# Altium integrated library Panasonic Relays Power Relays (Over 2A).IntLib: 286 symbols (part 5 of 8)
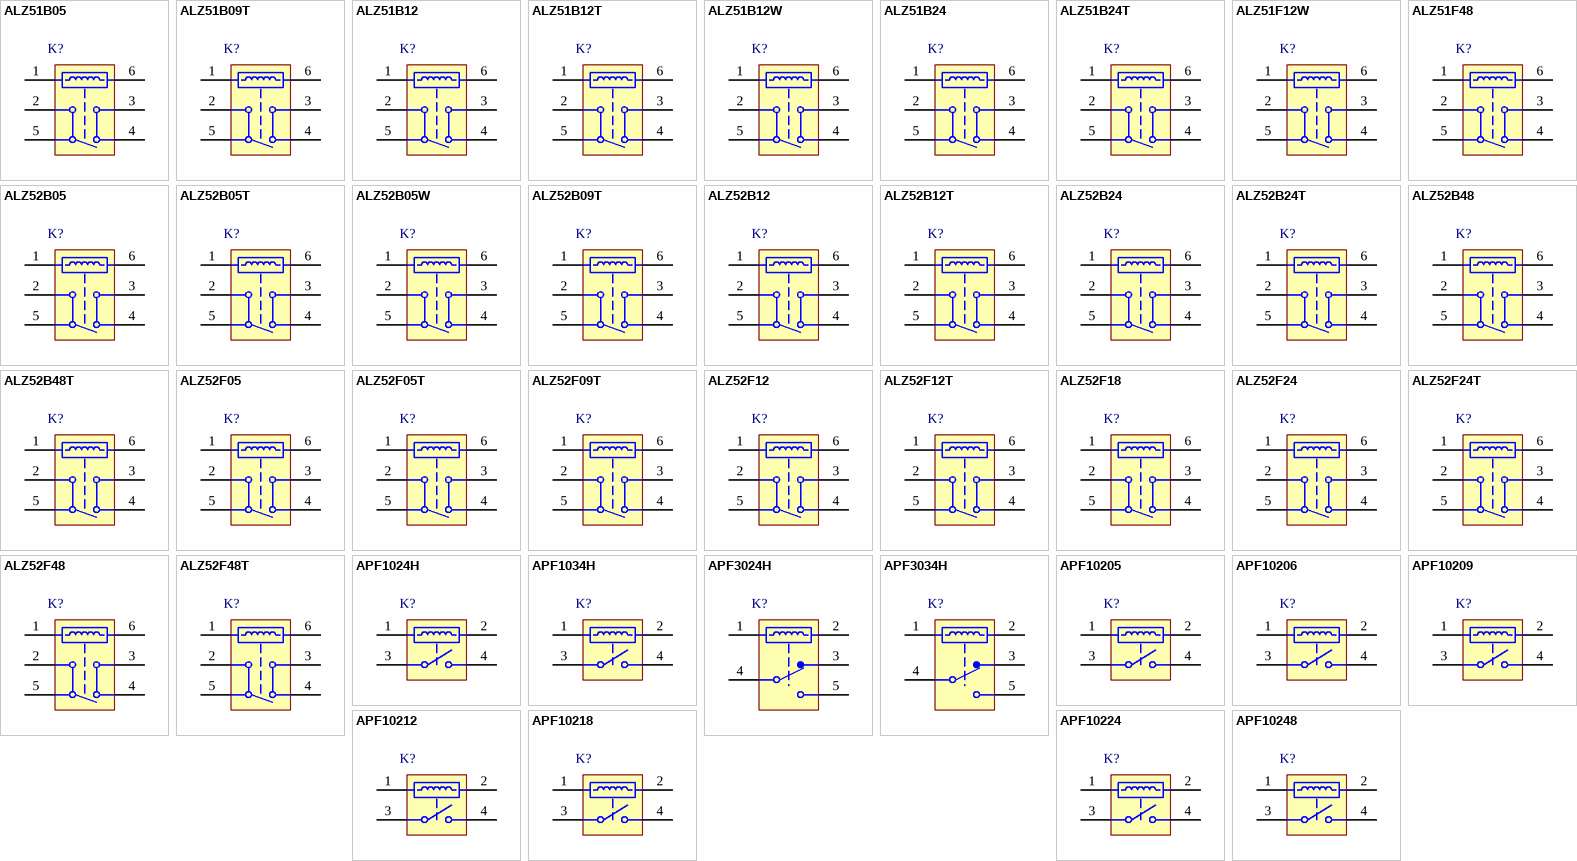
[diagram p11: symbols ALZ51B05 to APF10248]

## APF10212
designator K?
PF Relays, 12 V Coil Voltage, 170 mW Nominal Operating Power, -40 to 85 degC, 4-Pin PF, Tube, Case, RoHS; Manufacturer: Panasonic; PartNumber: APF10212; Coil Voltage: 12 V; Electrical Life: 5x10^4; Max Switching Current: 6 A; Max Switching Voltage: 250 V AC; Mechanical Life(Min.operation): 5x10^6; Nominal Operating Power: 170 mW; Pb-Free: True; DatasheetVersion: 201402-T; PackageVersion: ASCTB205E, 02/2014; PackageReference: PF-4-2800x500x1500; PackageDescription: 4-Pin Through Hole Terminal Package, Body 28 x 5 mm; Supplier 1: Mouser; Supplier Part Number 1: 769-APF10212; Supplier 2: Digi-Key; Supplier Part Number 2: 255-4240-5-ND; Packing: Tube, Case; RoHS: True; Series: PF Relays; Mounting Technology: Through Hole; ComponentLink1Description: Manufacturer URL; ComponentLink1URL: http://www3.panasonic.biz/ac/ae/index.jsp; ComponentLink2Description: Datasheet; ComponentLink2URL: http://www3.panasonic.biz/ac/e_download/control/relay/power/catalog/mech_eng_pf.pdf?f_cd=300412; ComponentLink3Description: Package Specification; ComponentLink3URL: http://www3.panasonic.biz/ac/e_download/control/relay/power/catalog/mech_eng_pf.pdf?f_cd=300412
footprint PNSC-PF-4-2800x500x1500_V (PF, 4-Leads, Body 28x5mm)
pins: 1, 2, 3 COM, 4 NO

## APF10218
designator K?
PF Relays, 18 V Coil Voltage, 170 mW Nominal Operating Power, -40 to 85 degC, 4-Pin PF, Tube, Case, RoHS; Manufacturer: Panasonic; PartNumber: APF10218; Coil Voltage: 18 V; Electrical Life: 5x10^4; Max Switching Current: 6 A; Max Switching Voltage: 250 V AC; Mechanical Life(Min.operation): 5x10^6; Nominal Operating Power: 170 mW; Pb-Free: True; DatasheetVersion: 201402-T; PackageVersion: ASCTB205E, 02/2014; PackageReference: PF-4-2800x500x1500; PackageDescription: 4-Pin Through Hole Terminal Package, Body 28 x 5 mm; Supplier 1: Mouser; Supplier Part Number 1: 769-APF10218; Supplier 2: Digi-Key; Supplier Part Number 2: APF10218-ND; Packing: Tube, Case; RoHS: True; Series: PF Relays; Mounting Technology: Through Hole; ComponentLink1Description: Manufacturer URL; ComponentLink1URL: http://www3.panasonic.biz/ac/ae/index.jsp; ComponentLink2Description: Datasheet; ComponentLink2URL: http://www3.panasonic.biz/ac/e_download/control/relay/power/catalog/mech_eng_pf.pdf?f_cd=300412; ComponentLink3Description: Package Specification; ComponentLink3URL: http://www3.panasonic.biz/ac/e_download/control/relay/power/catalog/mech_eng_pf.pdf?f_cd=300412
footprint PNSC-PF-4-2800x500x1500_V (PF, 4-Leads, Body 28x5mm)
pins: 1, 2, 3 COM, 4 NO

## APF10224
designator K?
PF Relays, 24 V Coil Voltage, 170 mW Nominal Operating Power, -40 to 85 degC, 4-Pin PF, Tube, Case, RoHS; Manufacturer: Panasonic; PartNumber: APF10224; Coil Voltage: 24 V; Electrical Life: 5x10^4; Max Switching Current: 6 A; Max Switching Voltage: 250 V AC; Mechanical Life(Min.operation): 5x10^6; Nominal Operating Power: 170 mW; Pb-Free: True; DatasheetVersion: 201402-T; PackageVersion: ASCTB205E, 02/2014; PackageReference: PF-4-2800x500x1500; PackageDescription: 4-Pin Through Hole Terminal Package, Body 28 x 5 mm; Supplier 1: Mouser; Supplier Part Number 1: 769-APF10224; Supplier 2: Digi-Key; Supplier Part Number 2: 255-2906-ND; Packing: Tube, Case; RoHS: True; Series: PF Relays; Mounting Technology: Through Hole; ComponentLink1Description: Manufacturer URL; ComponentLink1URL: http://www3.panasonic.biz/ac/ae/index.jsp; ComponentLink2Description: Datasheet; ComponentLink2URL: http://www3.panasonic.biz/ac/e_download/control/relay/power/catalog/mech_eng_pf.pdf?f_cd=300412; ComponentLink3Description: Package Specification; ComponentLink3URL: http://www3.panasonic.biz/ac/e_download/control/relay/power/catalog/mech_eng_pf.pdf?f_cd=300412
footprint PNSC-PF-4-2800x500x1500_V (PF, 4-Leads, Body 28x5mm)
pins: 1, 2, 3 COM, 4 NO

## APF10248
designator K?
PF Relays, 48 V Coil Voltage, 217 mW Nominal Operating Power, -40 to 85 degC, 4-Pin PF, Tube, Case, RoHS; Manufacturer: Panasonic; PartNumber: APF10248; Coil Voltage: 48 V; Electrical Life: 5x10^4; Max Switching Current: 6 A; Max Switching Voltage: 250 V AC; Mechanical Life(Min.operation): 5x10^6; Nominal Operating Power: 217 mW; Pb-Free: True; DatasheetVersion: 201402-T; PackageVersion: ASCTB205E, 02/2014; PackageReference: PF-4-2800x500x1500; PackageDescription: 4-Pin Through Hole Terminal Package, Body 28 x 5 mm; Supplier 1: Mouser; Supplier Part Number 1: N/A; Supplier 2: Mouser; Supplier Part Number 2: N/A; Supplier 3: Digi-Key; Supplier Part Number 3: APF10248-ND; Packing: Tube, Case; RoHS: True; Series: PF Relays; Mounting Technology: Through Hole; ComponentLink1Description: Manufacturer URL; ComponentLink1URL: http://www3.panasonic.biz/ac/ae/index.jsp; ComponentLink2Description: Datasheet; ComponentLink2URL: http://www3.panasonic.biz/ac/e_download/control/relay/power/catalog/mech_eng_pf.pdf?f_cd=300412; ComponentLink3Description: Package Specification; ComponentLink3URL: http://www3.panasonic.biz/ac/e_download/control/relay/power/catalog/mech_eng_pf.pdf?f_cd=300412
footprint PNSC-PF-4-2800x500x1500_V (PF, 4-Leads, Body 28x5mm)
pins: 1, 2, 3 COM, 4 NO

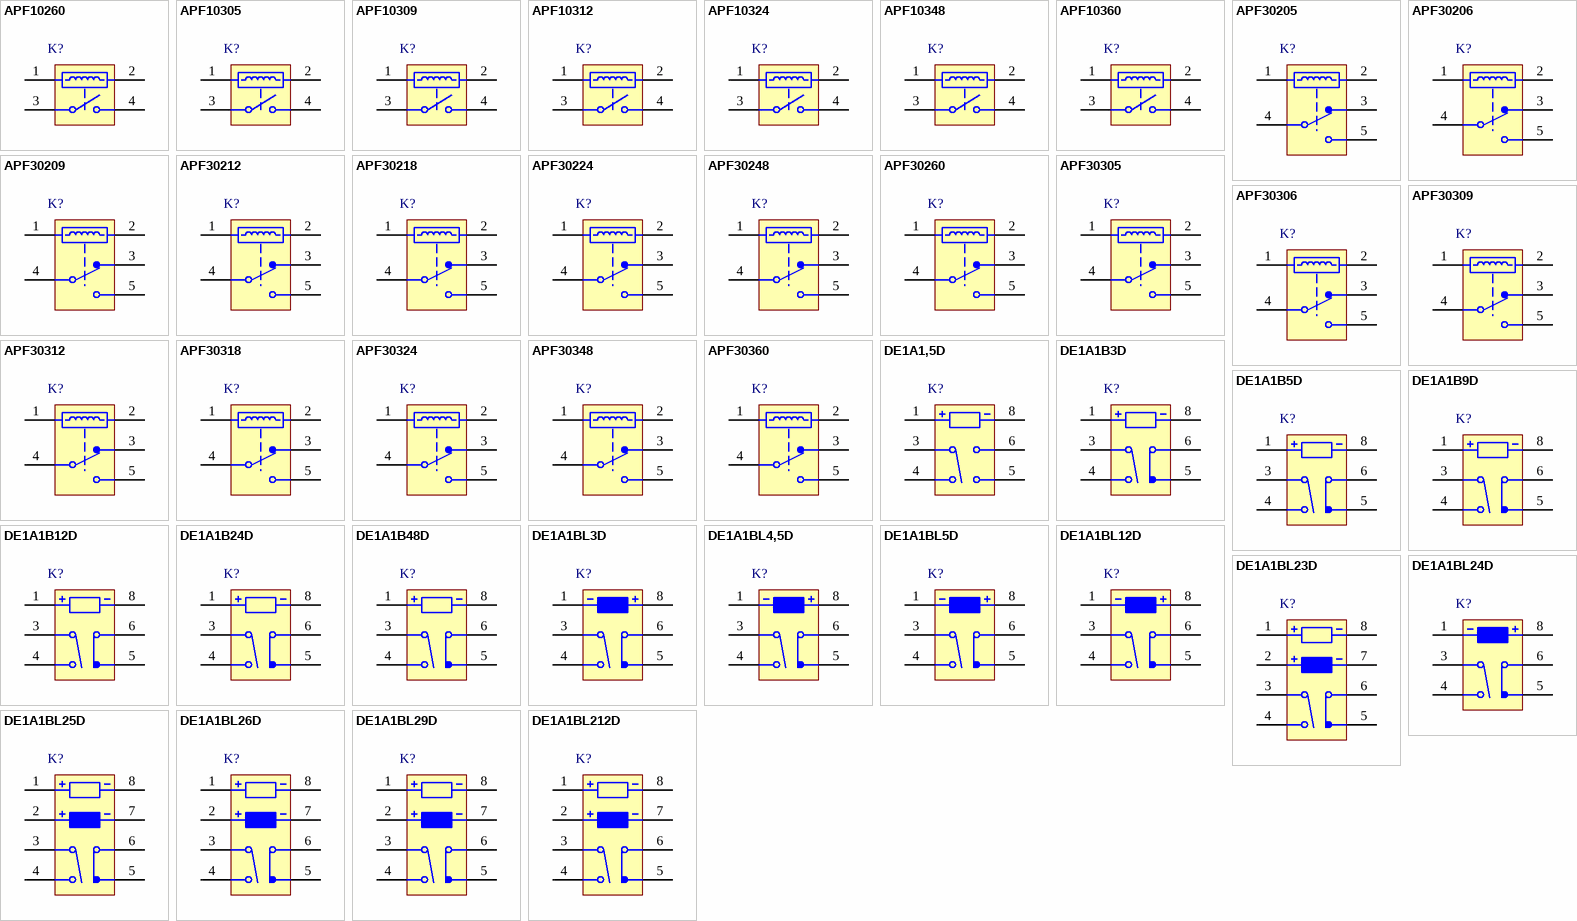
[diagram p4: symbols APF10260 to DE1A1BL212D]

## APF10260
designator K?
PF Relays, 60 V Coil Voltage, 175 mW Nominal Operating Power, -40 to 85 degC, 4-Pin PF, Tube, Case, RoHS; Manufacturer: Panasonic; PartNumber: APF10260; Coil Voltage: 60 V; Electrical Life: 5x10^4; Max Switching Current: 6 A; Max Switching Voltage: 250 V AC; Mechanical Life(Min.operation): 5x10^6; Nominal Operating Power: 175 mW; Pb-Free: True; DatasheetVersion: 201402-T; PackageVersion: ASCTB205E, 02/2014; PackageReference: PF-4-2800x500x1500; PackageDescription: 4-Pin Through Hole Terminal Package, Body 28 x 5 mm; Supplier 1: Mouser; Supplier Part Number 1: N/A; Supplier 2: Mouser; Supplier Part Number 2: N/A; Supplier 3: Digi-Key; Supplier Part Number 3: APF10260-ND; Packing: Tube, Case; RoHS: True; Series: PF Relays; Mounting Technology: Through Hole; ComponentLink1Description: Manufacturer URL; ComponentLink1URL: http://www3.panasonic.biz/ac/ae/index.jsp; ComponentLink2Description: Datasheet; ComponentLink2URL: http://www3.panasonic.biz/ac/e_download/control/relay/power/catalog/mech_eng_pf.pdf?f_cd=300412; ComponentLink3Description: Package Specification; ComponentLink3URL: http://www3.panasonic.biz/ac/e_download/control/relay/power/catalog/mech_eng_pf.pdf?f_cd=300412
footprint PNSC-PF-4-2800x500x1500_V (PF, 4-Leads, Body 28x5mm)
pins: 1, 2, 3 COM, 4 NO

## APF10305
designator K?
PF Relays, 5 V Coil Voltage, 170 mW Nominal Operating Power, -40 to 85 degC, 4-Pin PF, Tube, Case, RoHS; Manufacturer: Panasonic; PartNumber: APF10305; Coil Voltage: 5 V; Electrical Life: 5x10^4; Max Switching Current: 6 A; Max Switching Voltage: 250 V AC; Mechanical Life(Min.operation): 5x10^6; Nominal Operating Power: 170 mW; Pb-Free: True; DatasheetVersion: 201402-T; PackageVersion: ASCTB205E, 02/2014; PackageReference: PF-4-2800x500x1500; PackageDescription: 4-Pin Through Hole Terminal Package, Body 28 x 5 mm; Supplier 1: Mouser; Supplier Part Number 1: N/A; Supplier 2: Digi-Key; Supplier Part Number 2: 255-4241-5-ND; Packing: Tube, Case; RoHS: True; Series: PF Relays; Mounting Technology: Through Hole; ComponentLink1Description: Manufacturer URL; ComponentLink1URL: http://www3.panasonic.biz/ac/ae/index.jsp; ComponentLink2Description: Datasheet; ComponentLink2URL: http://www3.panasonic.biz/ac/e_download/control/relay/power/catalog/mech_eng_pf.pdf?f_cd=300412; ComponentLink3Description: Package Specification; ComponentLink3URL: http://www3.panasonic.biz/ac/e_download/control/relay/power/catalog/mech_eng_pf.pdf?f_cd=300412
footprint PNSC-PF-4-2800x500x1500_V (PF, 4-Leads, Body 28x5mm)
pins: 1, 2, 3 COM, 4 NO

## APF10309
designator K?
PF Relays, 9 V Coil Voltage, 170 mW Nominal Operating Power, -40 to 85 degC, 4-Pin PF, Tube, Case, RoHS; Manufacturer: Panasonic; PartNumber: APF10309; Coil Voltage: 9 V; Electrical Life: 5x10^4; Max Switching Current: 6 A; Max Switching Voltage: 250 V AC; Mechanical Life(Min.operation): 5x10^6; Nominal Operating Power: 170 mW; Pb-Free: True; DatasheetVersion: 201402-T; PackageVersion: ASCTB205E, 02/2014; PackageReference: PF-4-2800x500x1500; PackageDescription: 4-Pin Through Hole Terminal Package, Body 28 x 5 mm; Supplier 1: Mouser; Supplier Part Number 1: N/A; Supplier 2: Digi-Key; Supplier Part Number 2: APF10309-ND; Packing: Tube, Case; RoHS: True; Series: PF Relays; Mounting Technology: Through Hole; ComponentLink1Description: Manufacturer URL; ComponentLink1URL: http://www3.panasonic.biz/ac/ae/index.jsp; ComponentLink2Description: Datasheet; ComponentLink2URL: http://www3.panasonic.biz/ac/e_download/control/relay/power/catalog/mech_eng_pf.pdf?f_cd=300412; ComponentLink3Description: Package Specification; ComponentLink3URL: http://www3.panasonic.biz/ac/e_download/control/relay/power/catalog/mech_eng_pf.pdf?f_cd=300412
footprint PNSC-PF-4-2800x500x1500_V (PF, 4-Leads, Body 28x5mm)
pins: 1, 2, 3 COM, 4 NO

## APF10312
designator K?
PF Relays, 12 V Coil Voltage, 170 mW Nominal Operating Power, -40 to 85 degC, 4-Pin PF, Tube, Case, RoHS; Manufacturer: Panasonic; PartNumber: APF10312; Coil Voltage: 12 V; Electrical Life: 5x10^4; Max Switching Current: 6 A; Max Switching Voltage: 250 V AC; Mechanical Life(Min.operation): 5x10^6; Nominal Operating Power: 170 mW; Pb-Free: True; DatasheetVersion: 201402-T; PackageVersion: ASCTB205E, 02/2014; PackageReference: PF-4-2800x500x1500; PackageDescription: 4-Pin Through Hole Terminal Package, Body 28 x 5 mm; Supplier 1: Mouser; Supplier Part Number 1: 769-APF10312; Supplier 2: Digi-Key; Supplier Part Number 2: 255-2905-ND; Packing: Tube, Case; RoHS: True; Series: PF Relays; Mounting Technology: Through Hole; ComponentLink1Description: Manufacturer URL; ComponentLink1URL: http://www3.panasonic.biz/ac/ae/index.jsp; ComponentLink2Description: Datasheet; ComponentLink2URL: http://www3.panasonic.biz/ac/e_download/control/relay/power/catalog/mech_eng_pf.pdf?f_cd=300412; ComponentLink3Description: Package Specification; ComponentLink3URL: http://www3.panasonic.biz/ac/e_download/control/relay/power/catalog/mech_eng_pf.pdf?f_cd=300412
footprint PNSC-PF-4-2800x500x1500_V (PF, 4-Leads, Body 28x5mm)
pins: 1, 2, 3 COM, 4 NO

## APF10324
designator K?
PF Relays, 24 V Coil Voltage, 170 mW Nominal Operating Power, -40 to 85 degC, 4-Pin PF, Tube, Case, RoHS; Manufacturer: Panasonic; PartNumber: APF10324; Coil Voltage: 24 V; Electrical Life: 5x10^4; Max Switching Current: 6 A; Max Switching Voltage: 250 V AC; Mechanical Life(Min.operation): 5x10^6; Nominal Operating Power: 170 mW; Pb-Free: True; DatasheetVersion: 201402-T; PackageVersion: ASCTB205E, 02/2014; PackageReference: PF-4-2800x500x1500; PackageDescription: 4-Pin Through Hole Terminal Package, Body 28 x 5 mm; Supplier 1: Mouser; Supplier Part Number 1: 769-APF10324; Supplier 2: Digi-Key; Supplier Part Number 2: APF10324-ND; Packing: Tube, Case; RoHS: True; Series: PF Relays; Mounting Technology: Through Hole; ComponentLink1Description: Manufacturer URL; ComponentLink1URL: http://www3.panasonic.biz/ac/ae/index.jsp; ComponentLink2Description: Datasheet; ComponentLink2URL: http://www3.panasonic.biz/ac/e_download/control/relay/power/catalog/mech_eng_pf.pdf?f_cd=300412; ComponentLink3Description: Package Specification; ComponentLink3URL: http://www3.panasonic.biz/ac/e_download/control/relay/power/catalog/mech_eng_pf.pdf?f_cd=300412
footprint PNSC-PF-4-2800x500x1500_V (PF, 4-Leads, Body 28x5mm)
pins: 1, 2, 3 COM, 4 NO

## APF10348
designator K?
PF Relays, 48 V Coil Voltage, 217 mW Nominal Operating Power, -40 to 85 degC, 4-Pin PF, Tube, Case, RoHS; Manufacturer: Panasonic; PartNumber: APF10348; Coil Voltage: 48 V; Electrical Life: 5x10^4; Max Switching Current: 6 A; Max Switching Voltage: 250 V AC; Mechanical Life(Min.operation): 5x10^6; Nominal Operating Power: 217 mW; Pb-Free: True; DatasheetVersion: 201402-T; PackageVersion: ASCTB205E, 02/2014; PackageReference: PF-4-2800x500x1500; PackageDescription: 4-Pin Through Hole Terminal Package, Body 28 x 5 mm; Supplier 1: Mouser; Supplier Part Number 1: N/A; Supplier 2: Mouser; Supplier Part Number 2: N/A; Supplier 3: Digi-Key; Supplier Part Number 3: APF10348-ND; Packing: Tube, Case; RoHS: True; Series: PF Relays; Mounting Technology: Through Hole; ComponentLink1Description: Manufacturer URL; ComponentLink1URL: http://www3.panasonic.biz/ac/ae/index.jsp; ComponentLink2Description: Datasheet; ComponentLink2URL: http://www3.panasonic.biz/ac/e_download/control/relay/power/catalog/mech_eng_pf.pdf?f_cd=300412; ComponentLink3Description: Package Specification; ComponentLink3URL: http://www3.panasonic.biz/ac/e_download/control/relay/power/catalog/mech_eng_pf.pdf?f_cd=300412
footprint PNSC-PF-4-2800x500x1500_V (PF, 4-Leads, Body 28x5mm)
pins: 1, 2, 3 COM, 4 NO

## APF10360
designator K?
PF Relays, 60 V Coil Voltage, 175 mW Nominal Operating Power, -40 to 85 degC, 4-Pin PF, Tube, Case, RoHS; Manufacturer: Panasonic; PartNumber: APF10360; Coil Voltage: 60 V; Electrical Life: 5x10^4; Max Switching Current: 6 A; Max Switching Voltage: 250 V AC; Mechanical Life(Min.operation): 5x10^6; Nominal Operating Power: 175 mW; Pb-Free: True; DatasheetVersion: 201402-T; PackageVersion: ASCTB205E, 02/2014; PackageReference: PF-4-2800x500x1500; PackageDescription: 4-Pin Through Hole Terminal Package, Body 28 x 5 mm; Supplier 1: Mouser; Supplier Part Number 1: 769-APF10360; Supplier 2: Digi-Key; Supplier Part Number 2: 255-2907-ND; Packing: Tube, Case; RoHS: True; Series: PF Relays; Mounting Technology: Through Hole; ComponentLink1Description: Manufacturer URL; ComponentLink1URL: http://www3.panasonic.biz/ac/ae/index.jsp; ComponentLink2Description: Datasheet; ComponentLink2URL: http://www3.panasonic.biz/ac/e_download/control/relay/power/catalog/mech_eng_pf.pdf?f_cd=300412; ComponentLink3Description: Package Specification; ComponentLink3URL: http://www3.panasonic.biz/ac/e_download/control/relay/power/catalog/mech_eng_pf.pdf?f_cd=300412
footprint PNSC-PF-4-2800x500x1500_V (PF, 4-Leads, Body 28x5mm)
pins: 1, 2, 3 COM, 4 NO

## APF30205
designator K?
PF Relays, 5 V Coil Voltage, 170 mW Nominal Operating Power, -40 to 85 degC, 5-Pin PF, Tube, Case, RoHS; Manufacturer: Panasonic; PartNumber: APF30205; Coil Voltage: 5 V; Electrical Life: 5x10^4 (N.O.), 3x10^4 (N.C.); Max Switching Current: 6 A; Max Switching Voltage: 250 V AC; Mechanical Life(Min.operation): 5x10^6; Nominal Operating Power: 170 mW; Pb-Free: True; DatasheetVersion: 201402-T; PackageVersion: ASCTB205E, 02/2014; PackageReference: PF-5-2800x500x1500; PackageDescription: 5-Pin Through Hole Terminal Package, Body 28 x 5 mm; Supplier 1: Mouser; Supplier Part Number 1: N/A; Supplier 2: Digi-Key; Supplier Part Number 2: 255-4242-5-ND; Packing: Tube, Case; RoHS: True; Series: PF Relays; Mounting Technology: Through Hole; ComponentLink1Description: Manufacturer URL; ComponentLink1URL: http://www3.panasonic.biz/ac/ae/index.jsp; ComponentLink2Description: Datasheet; ComponentLink2URL: http://www3.panasonic.biz/ac/e_download/control/relay/power/catalog/mech_eng_pf.pdf?f_cd=300412; ComponentLink3Description: Package Specification; ComponentLink3URL: http://www3.panasonic.biz/ac/e_download/control/relay/power/catalog/mech_eng_pf.pdf?f_cd=300412
footprint PNSC-PF-5-2800x500x1500_V (PF, 5-Leads, Body 28x5mm)
pins: 1, 2, 3 NC, 4 COM, 5 NO

## APF30206
designator K?
PF Relays, 6 V Coil Voltage, 170 mW Nominal Operating Power, -40 to 85 degC, 5-Pin PF, Tube, Case, RoHS; Manufacturer: Panasonic; PartNumber: APF30206; Coil Voltage: 6 V; Electrical Life: 5x10^4 (N.O.), 3x10^4 (N.C.); Max Switching Current: 6 A; Max Switching Voltage: 250 V AC; Mechanical Life(Min.operation): 5x10^6; Nominal Operating Power: 170 mW; Pb-Free: True; DatasheetVersion: 201402-T; PackageVersion: ASCTB205E, 02/2014; PackageReference: PF-5-2800x500x1500; PackageDescription: 5-Pin Through Hole Terminal Package, Body 28 x 5 mm; Supplier 1: Mouser; Supplier Part Number 1: 769-APF30206; Supplier 2: Digi-Key; Supplier Part Number 2: 255-2909-ND; Packing: Tube, Case; RoHS: True; Series: PF Relays; Mounting Technology: Through Hole; ComponentLink1Description: Manufacturer URL; ComponentLink1URL: http://www3.panasonic.biz/ac/ae/index.jsp; ComponentLink2Description: Datasheet; ComponentLink2URL: http://www3.panasonic.biz/ac/e_download/control/relay/power/catalog/mech_eng_pf.pdf?f_cd=300412; ComponentLink3Description: Package Specification; ComponentLink3URL: http://www3.panasonic.biz/ac/e_download/control/relay/power/catalog/mech_eng_pf.pdf?f_cd=300412
footprint PNSC-PF-5-2800x500x1500_V (PF, 5-Leads, Body 28x5mm)
pins: 1, 2, 3 NC, 4 COM, 5 NO

## APF30209
designator K?
PF Relays, 9 V Coil Voltage, 170 mW Nominal Operating Power, -40 to 85 degC, 5-Pin PF, Tube, Case, RoHS; Manufacturer: Panasonic; PartNumber: APF30209; Coil Voltage: 9 V; Electrical Life: 5x10^4 (N.O.), 3x10^4 (N.C.); Max Switching Current: 6 A; Max Switching Voltage: 250 V AC; Mechanical Life(Min.operation): 5x10^6; Nominal Operating Power: 170 mW; Pb-Free: True; DatasheetVersion: 201402-T; PackageVersion: ASCTB205E, 02/2014; PackageReference: PF-5-2800x500x1500; PackageDescription: 5-Pin Through Hole Terminal Package, Body 28 x 5 mm; Supplier 1: Mouser; Supplier Part Number 1: 769-APF30209; Supplier 2: Digi-Key; Supplier Part Number 2: 255-2910-ND; Packing: Tube, Case; RoHS: True; Series: PF Relays; Mounting Technology: Through Hole; ComponentLink1Description: Manufacturer URL; ComponentLink1URL: http://www3.panasonic.biz/ac/ae/index.jsp; ComponentLink2Description: Datasheet; ComponentLink2URL: http://www3.panasonic.biz/ac/e_download/control/relay/power/catalog/mech_eng_pf.pdf?f_cd=300412; ComponentLink3Description: Package Specification; ComponentLink3URL: http://www3.panasonic.biz/ac/e_download/control/relay/power/catalog/mech_eng_pf.pdf?f_cd=300412
footprint PNSC-PF-5-2800x500x1500_V (PF, 5-Leads, Body 28x5mm)
pins: 1, 2, 3 NC, 4 COM, 5 NO

## APF30212
designator K?
PF Relays, 12 V Coil Voltage, 170 mW Nominal Operating Power, -40 to 85 degC, 5-Pin PF, Tube, Case, RoHS; Manufacturer: Panasonic; PartNumber: APF30212; Coil Voltage: 12 V; Electrical Life: 5x10^4 (N.O.), 3x10^4 (N.C.); Max Switching Current: 6 A; Max Switching Voltage: 250 V AC; Mechanical Life(Min.operation): 5x10^6; Nominal Operating Power: 170 mW; Pb-Free: True; DatasheetVersion: 201402-T; PackageVersion: ASCTB205E, 02/2014; PackageReference: PF-5-2800x500x1500; PackageDescription: 5-Pin Through Hole Terminal Package, Body 28 x 5 mm; Supplier 1: Mouser; Supplier Part Number 1: 769-APF30212; Supplier 2: Digi-Key; Supplier Part Number 2: 255-2911-ND; Packing: Tube, Case; RoHS: True; Series: PF Relays; Mounting Technology: Through Hole; ComponentLink1Description: Manufacturer URL; ComponentLink1URL: http://www3.panasonic.biz/ac/ae/index.jsp; ComponentLink2Description: Datasheet; ComponentLink2URL: http://www3.panasonic.biz/ac/e_download/control/relay/power/catalog/mech_eng_pf.pdf?f_cd=300412; ComponentLink3Description: Package Specification; ComponentLink3URL: http://www3.panasonic.biz/ac/e_download/control/relay/power/catalog/mech_eng_pf.pdf?f_cd=300412
footprint PNSC-PF-5-2800x500x1500_V (PF, 5-Leads, Body 28x5mm)
pins: 1, 2, 3 NC, 4 COM, 5 NO

## APF30218
designator K?
PF Relays, 18 V Coil Voltage, 170 mW Nominal Operating Power, -40 to 85 degC, 5-Pin PF, Tube, Case, RoHS; Manufacturer: Panasonic; PartNumber: APF30218; Coil Voltage: 18 V; Electrical Life: 5x10^4 (N.O.), 3x10^4 (N.C.); Max Switching Current: 6 A; Max Switching Voltage: 250 V AC; Mechanical Life(Min.operation): 5x10^6; Nominal Operating Power: 170 mW; Pb-Free: True; DatasheetVersion: 201402-T; PackageVersion: ASCTB205E, 02/2014; PackageReference: PF-5-2800x500x1500; PackageDescription: 5-Pin Through Hole Terminal Package, Body 28 x 5 mm; Supplier 1: Mouser; Supplier Part Number 1: N/A; Supplier 2: Digi-Key; Supplier Part Number 2: APF30218-ND; Packing: Tube, Case; RoHS: True; Series: PF Relays; Mounting Technology: Through Hole; ComponentLink1Description: Manufacturer URL; ComponentLink1URL: http://www3.panasonic.biz/ac/ae/index.jsp; ComponentLink2Description: Datasheet; ComponentLink2URL: http://www3.panasonic.biz/ac/e_download/control/relay/power/catalog/mech_eng_pf.pdf?f_cd=300412; ComponentLink3Description: Package Specification; ComponentLink3URL: http://www3.panasonic.biz/ac/e_download/control/relay/power/catalog/mech_eng_pf.pdf?f_cd=300412
footprint PNSC-PF-5-2800x500x1500_V (PF, 5-Leads, Body 28x5mm)
pins: 1, 2, 3 NC, 4 COM, 5 NO

## APF30224
designator K?
PF Relays, 24 V Coil Voltage, 170 mW Nominal Operating Power, -40 to 85 degC, 5-Pin PF, Tube, Case, RoHS; Manufacturer: Panasonic; PartNumber: APF30224; Coil Voltage: 24 V; Electrical Life: 5x10^4 (N.O.), 3x10^4 (N.C.); Max Switching Current: 6 A; Max Switching Voltage: 250 V AC; Mechanical Life(Min.operation): 5x10^6; Nominal Operating Power: 170 mW; Pb-Free: True; DatasheetVersion: 201402-T; PackageVersion: ASCTB205E, 02/2014; PackageReference: PF-5-2800x500x1500; PackageDescription: 5-Pin Through Hole Terminal Package, Body 28 x 5 mm; Supplier 1: Mouser; Supplier Part Number 1: 769-APF30224; Supplier 2: Digi-Key; Supplier Part Number 2: 255-2912-ND; Packing: Tube, Case; RoHS: True; Series: PF Relays; Mounting Technology: Through Hole; ComponentLink1Description: Manufacturer URL; ComponentLink1URL: http://www3.panasonic.biz/ac/ae/index.jsp; ComponentLink2Description: Datasheet; ComponentLink2URL: http://www3.panasonic.biz/ac/e_download/control/relay/power/catalog/mech_eng_pf.pdf?f_cd=300412; ComponentLink3Description: Package Specification; ComponentLink3URL: http://www3.panasonic.biz/ac/e_download/control/relay/power/catalog/mech_eng_pf.pdf?f_cd=300412
footprint PNSC-PF-5-2800x500x1500_V (PF, 5-Leads, Body 28x5mm)
pins: 1, 2, 3 NC, 4 COM, 5 NO

## APF30248
designator K?
PF Relays, 48 V Coil Voltage, 217 mW Nominal Operating Power, -40 to 85 degC, 5-Pin PF, Tube, Case, RoHS; Manufacturer: Panasonic; PartNumber: APF30248; Coil Voltage: 48 V; Electrical Life: 5x10^4 (N.O.), 3x10^4 (N.C.); Max Switching Current: 6 A; Max Switching Voltage: 250 V AC; Mechanical Life(Min.operation): 5x10^6; Nominal Operating Power: 217 mW; Pb-Free: True; DatasheetVersion: 201402-T; PackageVersion: ASCTB205E, 02/2014; PackageReference: PF-5-2800x500x1500; PackageDescription: 5-Pin Through Hole Terminal Package, Body 28 x 5 mm; Supplier 1: Mouser; Supplier Part Number 1: N/A; Supplier 2: Mouser; Supplier Part Number 2: N/A; Supplier 3: Digi-Key; Supplier Part Number 3: APF30248-ND; Packing: Tube, Case; RoHS: True; Series: PF Relays; Mounting Technology: Through Hole; ComponentLink1Description: Manufacturer URL; ComponentLink1URL: http://www3.panasonic.biz/ac/ae/index.jsp; ComponentLink2Description: Datasheet; ComponentLink2URL: http://www3.panasonic.biz/ac/e_download/control/relay/power/catalog/mech_eng_pf.pdf?f_cd=300412; ComponentLink3Description: Package Specification; ComponentLink3URL: http://www3.panasonic.biz/ac/e_download/control/relay/power/catalog/mech_eng_pf.pdf?f_cd=300412
footprint PNSC-PF-5-2800x500x1500_V (PF, 5-Leads, Body 28x5mm)
pins: 1, 2, 3 NC, 4 COM, 5 NO

## APF30260
designator K?
PF Relays, 60 V Coil Voltage, 175 mW Nominal Operating Power, -40 to 85 degC, 5-Pin PF, Tube, Case, RoHS; Manufacturer: Panasonic; PartNumber: APF30260; Coil Voltage: 60 V; Electrical Life: 5x10^4 (N.O.), 3x10^4 (N.C.); Max Switching Current: 6 A; Max Switching Voltage: 250 V AC; Mechanical Life(Min.operation): 5x10^6; Nominal Operating Power: 175 mW; Pb-Free: True; DatasheetVersion: 201402-T; PackageVersion: ASCTB205E, 02/2014; PackageReference: PF-5-2800x500x1500; PackageDescription: 5-Pin Through Hole Terminal Package, Body 28 x 5 mm; Supplier 1: Mouser; Supplier Part Number 1: 769-APF30260; Supplier 2: Digi-Key; Supplier Part Number 2: 255-2914-ND; Packing: Tube, Case; RoHS: True; Series: PF Relays; Mounting Technology: Through Hole; ComponentLink1Description: Manufacturer URL; ComponentLink1URL: http://www3.panasonic.biz/ac/ae/index.jsp; ComponentLink2Description: Datasheet; ComponentLink2URL: http://www3.panasonic.biz/ac/e_download/control/relay/power/catalog/mech_eng_pf.pdf?f_cd=300412; ComponentLink3Description: Package Specification; ComponentLink3URL: http://www3.panasonic.biz/ac/e_download/control/relay/power/catalog/mech_eng_pf.pdf?f_cd=300412
footprint PNSC-PF-5-2800x500x1500_V (PF, 5-Leads, Body 28x5mm)
pins: 1, 2, 3 NC, 4 COM, 5 NO

## APF30305
designator K?
PF Relays, 5 V Coil Voltage, 170 mW Nominal Operating Power, -40 to 85 degC, 5-Pin PF, Tube, Case, RoHS; Manufacturer: Panasonic; PartNumber: APF30305; Coil Voltage: 5 V; Electrical Life: 5x10^4 (N.O.), 3x10^4 (N.C.); Max Switching Current: 6 A; Max Switching Voltage: 250 V AC; Mechanical Life(Min.operation): 5x10^6; Nominal Operating Power: 170 mW; Pb-Free: True; DatasheetVersion: 201402-T; PackageVersion: ASCTB205E, 02/2014; PackageReference: PF-5-2800x500x1500; PackageDescription: 5-Pin Through Hole Terminal Package, Body 28 x 5 mm; Supplier 1: Mouser; Supplier Part Number 1: N/A; Supplier 2: Mouser; Supplier Part Number 2: N/A; Supplier 3: Digi-Key; Supplier Part Number 3: 255-3115-ND; Packing: Tube, Case; RoHS: True; Series: PF Relays; Mounting Technology: Through Hole; ComponentLink1Description: Manufacturer URL; ComponentLink1URL: http://www3.panasonic.biz/ac/ae/index.jsp; ComponentLink2Description: Datasheet; ComponentLink2URL: http://www3.panasonic.biz/ac/e_download/control/relay/power/catalog/mech_eng_pf.pdf?f_cd=300412; ComponentLink3Description: Package Specification; ComponentLink3URL: http://www3.panasonic.biz/ac/e_download/control/relay/power/catalog/mech_eng_pf.pdf?f_cd=300412
footprint PNSC-PF-5-2800x500x1500_V (PF, 5-Leads, Body 28x5mm)
pins: 1, 2, 3 NC, 4 COM, 5 NO

## APF30306
designator K?
PF Relays, 6 V Coil Voltage, 170 mW Nominal Operating Power, -40 to 85 degC, 5-Pin PF, Tube, Case, RoHS; Manufacturer: Panasonic; PartNumber: APF30306; Coil Voltage: 6 V; Electrical Life: 5x10^4 (N.O.), 3x10^4 (N.C.); Max Switching Current: 6 A; Max Switching Voltage: 250 V AC; Mechanical Life(Min.operation): 5x10^6; Nominal Operating Power: 170 mW; Pb-Free: True; DatasheetVersion: 201402-T; PackageVersion: ASCTB205E, 02/2014; PackageReference: PF-5-2800x500x1500; PackageDescription: 5-Pin Through Hole Terminal Package, Body 28 x 5 mm; Supplier 1: Mouser; Supplier Part Number 1: N/A; Supplier 2: Digi-Key; Supplier Part Number 2: APF30306-ND; Packing: Tube, Case; RoHS: True; Series: PF Relays; Mounting Technology: Through Hole; ComponentLink1Description: Manufacturer URL; ComponentLink1URL: http://www3.panasonic.biz/ac/ae/index.jsp; ComponentLink2Description: Datasheet; ComponentLink2URL: http://www3.panasonic.biz/ac/e_download/control/relay/power/catalog/mech_eng_pf.pdf?f_cd=300412; ComponentLink3Description: Package Specification; ComponentLink3URL: http://www3.panasonic.biz/ac/e_download/control/relay/power/catalog/mech_eng_pf.pdf?f_cd=300412
footprint PNSC-PF-5-2800x500x1500_V (PF, 5-Leads, Body 28x5mm)
pins: 1, 2, 3 NC, 4 COM, 5 NO

## APF30309
designator K?
PF Relays, 9 V Coil Voltage, 170 mW Nominal Operating Power, -40 to 85 degC, 5-Pin PF, Tube, Case, RoHS; Manufacturer: Panasonic; PartNumber: APF30309; Coil Voltage: 9 V; Electrical Life: 5x10^4 (N.O.), 3x10^4 (N.C.); Max Switching Current: 6 A; Max Switching Voltage: 250 V AC; Mechanical Life(Min.operation): 5x10^6; Nominal Operating Power: 170 mW; Pb-Free: True; DatasheetVersion: 201402-T; PackageVersion: ASCTB205E, 02/2014; PackageReference: PF-5-2800x500x1500; PackageDescription: 5-Pin Through Hole Terminal Package, Body 28 x 5 mm; Supplier 1: Mouser; Supplier Part Number 1: 769-APF30309; Supplier 2: Digi-Key; Supplier Part Number 2: APF30309-ND; Packing: Tube, Case; RoHS: True; Series: PF Relays; Mounting Technology: Through Hole; ComponentLink1Description: Manufacturer URL; ComponentLink1URL: http://www3.panasonic.biz/ac/ae/index.jsp; ComponentLink2Description: Datasheet; ComponentLink2URL: http://www3.panasonic.biz/ac/e_download/control/relay/power/catalog/mech_eng_pf.pdf?f_cd=300412; ComponentLink3Description: Package Specification; ComponentLink3URL: http://www3.panasonic.biz/ac/e_download/control/relay/power/catalog/mech_eng_pf.pdf?f_cd=300412
footprint PNSC-PF-5-2800x500x1500_V (PF, 5-Leads, Body 28x5mm)
pins: 1, 2, 3 NC, 4 COM, 5 NO

## APF30312
designator K?
PF Relays, 12 V Coil Voltage, 170 mW Nominal Operating Power, -40 to 85 degC, 5-Pin PF, Tube, Case, RoHS; Manufacturer: Panasonic; PartNumber: APF30312; Coil Voltage: 12 V; Electrical Life: 5x10^4 (N.O.), 3x10^4 (N.C.); Max Switching Current: 6 A; Max Switching Voltage: 250 V AC; Mechanical Life(Min.operation): 5x10^6; Nominal Operating Power: 170 mW; Pb-Free: True; DatasheetVersion: 201402-T; PackageVersion: ASCTB205E, 02/2014; PackageReference: PF-5-2800x500x1500; PackageDescription: 5-Pin Through Hole Terminal Package, Body 28 x 5 mm; Supplier 1: Mouser; Supplier Part Number 1: 769-APF30312; Supplier 2: Digi-Key; Supplier Part Number 2: APF30312-ND; Packing: Tube, Case; RoHS: True; Series: PF Relays; Mounting Technology: Through Hole; ComponentLink1Description: Manufacturer URL; ComponentLink1URL: http://www3.panasonic.biz/ac/ae/index.jsp; ComponentLink2Description: Datasheet; ComponentLink2URL: http://www3.panasonic.biz/ac/e_download/control/relay/power/catalog/mech_eng_pf.pdf?f_cd=300412; ComponentLink3Description: Package Specification; ComponentLink3URL: http://www3.panasonic.biz/ac/e_download/control/relay/power/catalog/mech_eng_pf.pdf?f_cd=300412
footprint PNSC-PF-5-2800x500x1500_V (PF, 5-Leads, Body 28x5mm)
pins: 1, 2, 3 NC, 4 COM, 5 NO

## APF30318
designator K?
PF Relays, 18 V Coil Voltage, 170 mW Nominal Operating Power, -40 to 85 degC, 5-Pin PF, Tube, Case, RoHS; Manufacturer: Panasonic; PartNumber: APF30318; Coil Voltage: 18 V; Electrical Life: 5x10^4 (N.O.), 3x10^4 (N.C.); Max Switching Current: 6 A; Max Switching Voltage: 250 V AC; Mechanical Life(Min.operation): 5x10^6; Nominal Operating Power: 170 mW; Pb-Free: True; DatasheetVersion: 201402-T; PackageVersion: ASCTB205E, 02/2014; PackageReference: PF-5-2800x500x1500; PackageDescription: 5-Pin Through Hole Terminal Package, Body 28 x 5 mm; Supplier 1: Mouser; Supplier Part Number 1: N/A; Supplier 2: Mouser; Supplier Part Number 2: N/A; Supplier 3: Digi-Key; Supplier Part Number 3: 255-4243-5-ND; Packing: Tube, Case; RoHS: True; Series: PF Relays; Mounting Technology: Through Hole; ComponentLink1Description: Manufacturer URL; ComponentLink1URL: http://www3.panasonic.biz/ac/ae/index.jsp; ComponentLink2Description: Datasheet; ComponentLink2URL: http://www3.panasonic.biz/ac/e_download/control/relay/power/catalog/mech_eng_pf.pdf?f_cd=300412; ComponentLink3Description: Package Specification; ComponentLink3URL: http://www3.panasonic.biz/ac/e_download/control/relay/power/catalog/mech_eng_pf.pdf?f_cd=300412
footprint PNSC-PF-5-2800x500x1500_V (PF, 5-Leads, Body 28x5mm)
pins: 1, 2, 3 NC, 4 COM, 5 NO

## APF30324
designator K?
PF Relays, 24 V Coil Voltage, 170 mW Nominal Operating Power, -40 to 85 degC, 5-Pin PF, Tube, Case, RoHS; Manufacturer: Panasonic; PartNumber: APF30324; Coil Voltage: 24 V; Electrical Life: 5x10^4 (N.O.), 3x10^4 (N.C.); Max Switching Current: 6 A; Max Switching Voltage: 250 V AC; Mechanical Life(Min.operation): 5x10^6; Nominal Operating Power: 170 mW; Pb-Free: True; DatasheetVersion: 201402-T; PackageVersion: ASCTB205E, 02/2014; PackageReference: PF-5-2800x500x1500; PackageDescription: 5-Pin Through Hole Terminal Package, Body 28 x 5 mm; Supplier 1: Mouser; Supplier Part Number 1: 769-APF30324; Supplier 2: Digi-Key; Supplier Part Number 2: APF30324-ND; Packing: Tube, Case; RoHS: True; Series: PF Relays; Mounting Technology: Through Hole; ComponentLink1Description: Manufacturer URL; ComponentLink1URL: http://www3.panasonic.biz/ac/ae/index.jsp; ComponentLink2Description: Datasheet; ComponentLink2URL: http://www3.panasonic.biz/ac/e_download/control/relay/power/catalog/mech_eng_pf.pdf?f_cd=300412; ComponentLink3Description: Package Specification; ComponentLink3URL: http://www3.panasonic.biz/ac/e_download/control/relay/power/catalog/mech_eng_pf.pdf?f_cd=300412
footprint PNSC-PF-5-2800x500x1500_V (PF, 5-Leads, Body 28x5mm)
pins: 1, 2, 3 NC, 4 COM, 5 NO

## APF30348
designator K?
PF Relays, 48 V Coil Voltage, 217 mW Nominal Operating Power, -40 to 85 degC, 5-Pin PF, Tube, Case, RoHS; Manufacturer: Panasonic; PartNumber: APF30348; Coil Voltage: 48 V; Electrical Life: 5x10^4 (N.O.), 3x10^4 (N.C.); Max Switching Current: 6 A; Max Switching Voltage: 250 V AC; Mechanical Life(Min.operation): 5x10^6; Nominal Operating Power: 217 mW; Pb-Free: True; DatasheetVersion: 201402-T; PackageVersion: ASCTB205E, 02/2014; PackageReference: PF-5-2800x500x1500; PackageDescription: 5-Pin Through Hole Terminal Package, Body 28 x 5 mm; Supplier 1: Mouser; Supplier Part Number 1: 769-APF30348; Supplier 2: Digi-Key; Supplier Part Number 2: 255-2913-ND; Packing: Tube, Case; RoHS: True; Series: PF Relays; Mounting Technology: Through Hole; ComponentLink1Description: Manufacturer URL; ComponentLink1URL: http://www3.panasonic.biz/ac/ae/index.jsp; ComponentLink2Description: Datasheet; ComponentLink2URL: http://www3.panasonic.biz/ac/e_download/control/relay/power/catalog/mech_eng_pf.pdf?f_cd=300412; ComponentLink3Description: Package Specification; ComponentLink3URL: http://www3.panasonic.biz/ac/e_download/control/relay/power/catalog/mech_eng_pf.pdf?f_cd=300412
footprint PNSC-PF-5-2800x500x1500_V (PF, 5-Leads, Body 28x5mm)
pins: 1, 2, 3 NC, 4 COM, 5 NO

## APF30360
designator K?
PF Relays, 60 V Coil Voltage, 175 mW Nominal Operating Power, -40 to 85 degC, 5-Pin PF, Tube, Case, RoHS; Manufacturer: Panasonic; PartNumber: APF30360; Coil Voltage: 60 V; Electrical Life: 5x10^4 (N.O.), 3x10^4 (N.C.); Max Switching Current: 6 A; Max Switching Voltage: 250 V AC; Mechanical Life(Min.operation): 5x10^6; Nominal Operating Power: 175 mW; Pb-Free: True; DatasheetVersion: 201402-T; PackageVersion: ASCTB205E, 02/2014; PackageReference: PF-5-2800x500x1500; PackageDescription: 5-Pin Through Hole Terminal Package, Body 28 x 5 mm; Supplier 1: Mouser; Supplier Part Number 1: 769-APF30360; Supplier 2: Digi-Key; Supplier Part Number 2: APF30360-ND; Packing: Tube, Case; RoHS: True; Series: PF Relays; Mounting Technology: Through Hole; ComponentLink1Description: Manufacturer URL; ComponentLink1URL: http://www3.panasonic.biz/ac/ae/index.jsp; ComponentLink2Description: Datasheet; ComponentLink2URL: http://www3.panasonic.biz/ac/e_download/control/relay/power/catalog/mech_eng_pf.pdf?f_cd=300412; ComponentLink3Description: Package Specification; ComponentLink3URL: http://www3.panasonic.biz/ac/e_download/control/relay/power/catalog/mech_eng_pf.pdf?f_cd=300412
footprint PNSC-PF-5-2800x500x1500_V (PF, 5-Leads, Body 28x5mm)
pins: 1, 2, 3 NC, 4 COM, 5 NO

## DE1A1,5D
designator K?
DE Relays, 1.5 V Coil Voltage, 200 mW Nominal Operating Power, -40 to 70 degC, 6-Pin DE, Tube, Case, RoHS; Manufacturer: Panasonic; PartNumber: DE1A1,5D; Coil Voltage: 1.5 V; Electrical Life: 1x10^5; Max Switching Current: 10 A; Max Switching Voltage: 440 V AC, 230 V DC; Mechanical Life(Min.operation): 1x10^7; Nominal Operating Power: 200 mW; Pb-Free: True; DatasheetVersion: 150313D; PackageVersion: 150313D, 03/2013; PackageReference: DE-6-2500x1250x1250; PackageDescription: 6-Pin Through Hole Terminal Package, Body 25 x 12.5 mm; Supplier 1: Mouser; Supplier Part Number 1: N/A; Supplier 2: Mouser; Supplier Part Number 2: N/A; Supplier 3: Mouser; Supplier Part Number 3: N/A; Supplier 4: Mouser; Supplier Part Number 4: N/A; Supplier 5: Mouser; Supplier Part Number 5: N/A; Supplier 6: Mouser; Supplier Part Number 6: N/A; Packing: Tube, Case; RoHS: True; Series: DE Relays; Mounting Technology: Through Hole; ComponentLink1Description: Manufacturer URL; ComponentLink1URL: http://www3.panasonic.biz/ac/ae/index.jsp; ComponentLink2Description: Datasheet; ComponentLink2URL: https://www.distrelec.de/ishop/Datasheets/ds_61A01_en_de.pdf; ComponentLink3Description: Package Specification; ComponentLink3URL: https://www.distrelec.de/ishop/Datasheets/ds_61A01_en_de.pdf
footprint PNSC-DE-6-2500x1250x1250_V (DE, 6-Leads, Body 25x12.5mm)
pins: 1 +, 3, 4, 5, 6, 8 -

## DE1A1B3D
designator K?
DE Relays, 3 V Coil Voltage, 200 mW Nominal Operating Power, -40 to 70 degC, 6-Pin DE, Tube, Case, RoHS; Manufacturer: Panasonic; PartNumber: DE1A1B3D; Coil Voltage: 3 V; Electrical Life: 1x10^5; Max Switching Current: 8 A; Max Switching Voltage: 440 V AC, 230 V DC; Mechanical Life(Min.operation): 1x10^7; Nominal Operating Power: 200 mW; Pb-Free: True; DatasheetVersion: 150313D; PackageVersion: 150313D, 03/2013; PackageReference: DE-6-2500x1250x1250; PackageDescription: 6-Pin Through Hole Terminal Package, Body 25 x 12.5 mm; Supplier 1: Mouser; Supplier Part Number 1: N/A; Packing: Tube, Case; RoHS: True; Series: DE Relays; Mounting Technology: Through Hole; ComponentLink1Description: Manufacturer URL; ComponentLink1URL: http://www3.panasonic.biz/ac/ae/index.jsp; ComponentLink2Description: Datasheet; ComponentLink2URL: https://www.distrelec.de/ishop/Datasheets/ds_61A01_en_de.pdf; ComponentLink3Description: Package Specification; ComponentLink3URL: https://www.distrelec.de/ishop/Datasheets/ds_61A01_en_de.pdf
footprint PNSC-DE-6-2500x1250x1250_V (DE, 6-Leads, Body 25x12.5mm)
pins: 1 +, 3, 4, 5, 6, 8 -

## DE1A1B5D
designator K?
DE Relays, 5 V Coil Voltage, 200 mW Nominal Operating Power, -40 to 70 degC, 6-Pin DE, Tube, Case, RoHS; Manufacturer: Panasonic; PartNumber: DE1A1B5D; Coil Voltage: 5 V; Electrical Life: 1x10^5; Max Switching Current: 8 A; Max Switching Voltage: 250 V AC, 30 V DC; Mechanical Life(Min.operation): 1x10^7; Nominal Operating Power: 200 mW; Pb-Free: True; DatasheetVersion: 201402-T; PackageVersion: ASCTB175E, 02/2014; PackageReference: DE-6-2500x1250x1250; PackageDescription: 6-Pin Through Hole Terminal Package, Body 25 x 12.5 mm; Supplier 1: Mouser; Supplier Part Number 1: N/A; Packing: Tube, Case; RoHS: True; Series: DE Relays; Mounting Technology: Through Hole; ComponentLink1Description: Manufacturer URL; ComponentLink1URL: http://www3.panasonic.biz/ac/ae/index.jsp; ComponentLink2Description: Datasheet; ComponentLink2URL: http://www3.panasonic.biz/ac/e_download/control/relay/power/catalog/mech_eng_de.pdf?f_cd=300042; ComponentLink3Description: Package Specification; ComponentLink3URL: http://www3.panasonic.biz/ac/e_download/control/relay/power/catalog/mech_eng_de.pdf?f_cd=300042
footprint PNSC-DE-6-2500x1250x1250_V (DE, 6-Leads, Body 25x12.5mm)
pins: 1 +, 3, 4, 5, 6, 8 -

## DE1A1B9D
designator K?
DE Relays, 9 V Coil Voltage, 200 mW Nominal Operating Power, -40 to 70 degC, 6-Pin DE, Tube, Case, RoHS; Manufacturer: Panasonic; PartNumber: DE1A1B9D; Coil Voltage: 9 V; Electrical Life: 1x10^5; Max Switching Current: 8 A; Max Switching Voltage: 440 V AC, 230 V DC; Mechanical Life(Min.operation): 1x10^7; Nominal Operating Power: 200 mW; Pb-Free: True; DatasheetVersion: 150313D; PackageVersion: 150313D, 03/2013; PackageReference: DE-6-2500x1250x1250; PackageDescription: 6-Pin Through Hole Terminal Package, Body 25 x 12.5 mm; Supplier 1: Mouser; Supplier Part Number 1: N/A; Packing: Tube, Case; RoHS: True; Series: DE Relays; Mounting Technology: Through Hole; ComponentLink1Description: Manufacturer URL; ComponentLink1URL: http://www3.panasonic.biz/ac/ae/index.jsp; ComponentLink2Description: Datasheet; ComponentLink2URL: https://www.distrelec.de/ishop/Datasheets/ds_61A01_en_de.pdf; ComponentLink3Description: Package Specification; ComponentLink3URL: https://www.distrelec.de/ishop/Datasheets/ds_61A01_en_de.pdf
footprint PNSC-DE-6-2500x1250x1250_V (DE, 6-Leads, Body 25x12.5mm)
pins: 1 +, 3, 4, 5, 6, 8 -

## DE1A1B12D
designator K?
DE Relays, 12 V Coil Voltage, 200 mW Nominal Operating Power, -40 to 70 degC, 6-Pin DE, Tube, Case, RoHS; Manufacturer: Panasonic; PartNumber: DE1A1B12D; Coil Voltage: 12 V; Electrical Life: 1x10^5; Max Switching Current: 8 A; Max Switching Voltage: 250 V AC, 30 V DC; Mechanical Life(Min.operation): 1x10^7; Nominal Operating Power: 200 mW; Pb-Free: True; DatasheetVersion: 201402-T; PackageVersion: ASCTB175E, 02/2014; PackageReference: DE-6-2500x1250x1250; PackageDescription: 6-Pin Through Hole Terminal Package, Body 25 x 12.5 mm; Supplier 1: Mouser; Supplier Part Number 1: N/A; Packing: Tube, Case; RoHS: True; Series: DE Relays; Mounting Technology: Through Hole; ComponentLink1Description: Manufacturer URL; ComponentLink1URL: http://www3.panasonic.biz/ac/ae/index.jsp; ComponentLink2Description: Datasheet; ComponentLink2URL: http://www3.panasonic.biz/ac/e_download/control/relay/power/catalog/mech_eng_de.pdf?f_cd=300042; ComponentLink3Description: Package Specification; ComponentLink3URL: http://www3.panasonic.biz/ac/e_download/control/relay/power/catalog/mech_eng_de.pdf?f_cd=300042
footprint PNSC-DE-6-2500x1250x1250_V (DE, 6-Leads, Body 25x12.5mm)
pins: 1 +, 3, 4, 5, 6, 8 -

## DE1A1B24D
designator K?
DE Relays, 24 V Coil Voltage, 200 mW Nominal Operating Power, -40 to 70 degC, 6-Pin DE, Tube, Case, RoHS; Manufacturer: Panasonic; PartNumber: DE1A1B24D; Coil Voltage: 24 V; Electrical Life: 1x10^5; Max Switching Current: 8 A; Max Switching Voltage: 250 V AC, 30 V DC; Mechanical Life(Min.operation): 1x10^7; Nominal Operating Power: 200 mW; Pb-Free: True; DatasheetVersion: 201402-T; PackageVersion: ASCTB175E, 02/2014; PackageReference: DE-6-2500x1250x1250; PackageDescription: 6-Pin Through Hole Terminal Package, Body 25 x 12.5 mm; Supplier 1: Mouser; Supplier Part Number 1: N/A; Packing: Tube, Case; RoHS: True; Series: DE Relays; Mounting Technology: Through Hole; ComponentLink1Description: Manufacturer URL; ComponentLink1URL: http://www3.panasonic.biz/ac/ae/index.jsp; ComponentLink2Description: Datasheet; ComponentLink2URL: http://www3.panasonic.biz/ac/e_download/control/relay/power/catalog/mech_eng_de.pdf?f_cd=300042; ComponentLink3Description: Package Specification; ComponentLink3URL: http://www3.panasonic.biz/ac/e_download/control/relay/power/catalog/mech_eng_de.pdf?f_cd=300042
footprint PNSC-DE-6-2500x1250x1250_V (DE, 6-Leads, Body 25x12.5mm)
pins: 1 +, 3, 4, 5, 6, 8 -

## DE1A1B48D
designator K?
DE Relays, 48 V Coil Voltage, 200 mW Nominal Operating Power, -40 to 70 degC, 6-Pin DE, Tube, Case, RoHS; Manufacturer: Panasonic; PartNumber: DE1A1B48D; Coil Voltage: 48 V; Electrical Life: 1x10^5; Max Switching Current: 8 A; Max Switching Voltage: 440 V AC, 230 V DC; Mechanical Life(Min.operation): 1x10^7; Nominal Operating Power: 200 mW; Pb-Free: True; DatasheetVersion: 150313D; PackageVersion: 150313D, 03/2013; PackageReference: DE-6-2500x1250x1250; PackageDescription: 6-Pin Through Hole Terminal Package, Body 25 x 12.5 mm; Supplier 1: Mouser; Supplier Part Number 1: N/A; Packing: Tube, Case; RoHS: True; Series: DE Relays; Mounting Technology: Through Hole; ComponentLink1Description: Manufacturer URL; ComponentLink1URL: http://www3.panasonic.biz/ac/ae/index.jsp; ComponentLink2Description: Datasheet; ComponentLink2URL: https://www.distrelec.de/ishop/Datasheets/ds_61A01_en_de.pdf; ComponentLink3Description: Package Specification; ComponentLink3URL: https://www.distrelec.de/ishop/Datasheets/ds_61A01_en_de.pdf
footprint PNSC-DE-6-2500x1250x1250_V (DE, 6-Leads, Body 25x12.5mm)
pins: 1 +, 3, 4, 5, 6, 8 -

## DE1A1BL3D
designator K?
DE Relays, 3 V Coil Voltage, 100 mW Nominal Operating Power, -40 to 70 degC, 6-Pin DE, Tube, Case, RoHS; Manufacturer: Panasonic; PartNumber: DE1A1BL3D; Coil Voltage: 3 V; Electrical Life: 1x10^5; Max Switching Current: 8 A; Max Switching Voltage: 440 V AC, 230 V DC; Mechanical Life(Min.operation): 1x10^7; Nominal Operating Power: 100 mW; Pb-Free: True; DatasheetVersion: 150313D; PackageVersion: 150313D, 03/2013; PackageReference: DE-6-2500x1250x1250; PackageDescription: 6-Pin Through Hole Terminal Package, Body 25 x 12.5 mm; Supplier 1: Mouser; Supplier Part Number 1: N/A; Packing: Tube, Case; RoHS: True; Series: DE Relays; Mounting Technology: Through Hole; ComponentLink1Description: Manufacturer URL; ComponentLink1URL: http://www3.panasonic.biz/ac/ae/index.jsp; ComponentLink2Description: Datasheet; ComponentLink2URL: https://www.distrelec.de/ishop/Datasheets/ds_61A01_en_de.pdf; ComponentLink3Description: Package Specification; ComponentLink3URL: https://www.distrelec.de/ishop/Datasheets/ds_61A01_en_de.pdf
footprint PNSC-DE-6-2500x1250x1250_V (DE, 6-Leads, Body 25x12.5mm)
pins: 1 -, 3, 4, 5, 6, 8 +

## DE1A1BL4,5D
designator K?
DE Relays, 4.5 V Coil Voltage, 100 mW Nominal Operating Power, -40 to 70 degC, 6-Pin DE, Tube, Case, RoHS; Manufacturer: Panasonic; PartNumber: DE1A1BL4,5D; Coil Voltage: 4.5 V; Electrical Life: 1x10^5; Max Switching Current: 8 A; Max Switching Voltage: 440 V AC, 230 V DC; Mechanical Life(Min.operation): 1x10^7; Nominal Operating Power: 100 mW; Pb-Free: True; DatasheetVersion: 150313D; PackageVersion: 150313D, 03/2013; PackageReference: DE-6-2500x1250x1250; PackageDescription: 6-Pin Through Hole Terminal Package, Body 25 x 12.5 mm; Supplier 1: Mouser; Supplier Part Number 1: N/A; Packing: Tube, Case; RoHS: True; Series: DE Relays; Mounting Technology: Through Hole; ComponentLink1Description: Manufacturer URL; ComponentLink1URL: http://www3.panasonic.biz/ac/ae/index.jsp; ComponentLink2Description: Datasheet; ComponentLink2URL: https://www.distrelec.de/ishop/Datasheets/ds_61A01_en_de.pdf; ComponentLink3Description: Package Specification; ComponentLink3URL: https://www.distrelec.de/ishop/Datasheets/ds_61A01_en_de.pdf
footprint PNSC-DE-6-2500x1250x1250_V (DE, 6-Leads, Body 25x12.5mm)
pins: 1 -, 3, 4, 5, 6, 8 +

## DE1A1BL5D
designator K?
DE Relays, 5 V Coil Voltage, 100 mW Nominal Operating Power, -40 to 70 degC, 6-Pin DE, Tube, Case, RoHS; Manufacturer: Panasonic; PartNumber: DE1A1BL5D; Coil Voltage: 5 V; Electrical Life: 1x10^5; Max Switching Current: 8 A; Max Switching Voltage: 440 V AC, 230 V DC; Mechanical Life(Min.operation): 1x10^7; Nominal Operating Power: 100 mW; Pb-Free: True; DatasheetVersion: 150313D; PackageVersion: 150313D, 03/2013; PackageReference: DE-6-2500x1250x1250; PackageDescription: 6-Pin Through Hole Terminal Package, Body 25 x 12.5 mm; Supplier 1: Mouser; Supplier Part Number 1: N/A; Packing: Tube, Case; RoHS: True; Series: DE Relays; Mounting Technology: Through Hole; ComponentLink1Description: Manufacturer URL; ComponentLink1URL: http://www3.panasonic.biz/ac/ae/index.jsp; ComponentLink2Description: Datasheet; ComponentLink2URL: https://www.distrelec.de/ishop/Datasheets/ds_61A01_en_de.pdf; ComponentLink3Description: Package Specification; ComponentLink3URL: https://www.distrelec.de/ishop/Datasheets/ds_61A01_en_de.pdf
footprint PNSC-DE-6-2500x1250x1250_V (DE, 6-Leads, Body 25x12.5mm)
pins: 1 -, 3, 4, 5, 6, 8 +

## DE1A1BL12D
designator K?
DE Relays, 12 V Coil Voltage, 100 mW Nominal Operating Power, -40 to 70 degC, 6-Pin DE, Tube, Case, RoHS; Manufacturer: Panasonic; PartNumber: DE1A1BL12D; Coil Voltage: 12 V; Electrical Life: 1x10^5; Max Switching Current: 8 A; Max Switching Voltage: 440 V AC, 230 V DC; Mechanical Life(Min.operation): 1x10^7; Nominal Operating Power: 100 mW; Pb-Free: True; DatasheetVersion: 150313D; PackageVersion: 150313D, 03/2013; PackageReference: DE-6-2500x1250x1250; PackageDescription: 6-Pin Through Hole Terminal Package, Body 25 x 12.5 mm; Supplier 1: Mouser; Supplier Part Number 1: N/A; Packing: Tube, Case; RoHS: True; Series: DE Relays; Mounting Technology: Through Hole; ComponentLink1Description: Manufacturer URL; ComponentLink1URL: http://www3.panasonic.biz/ac/ae/index.jsp; ComponentLink2Description: Datasheet; ComponentLink2URL: https://www.distrelec.de/ishop/Datasheets/ds_61A01_en_de.pdf; ComponentLink3Description: Package Specification; ComponentLink3URL: https://www.distrelec.de/ishop/Datasheets/ds_61A01_en_de.pdf
footprint PNSC-DE-6-2500x1250x1250_V (DE, 6-Leads, Body 25x12.5mm)
pins: 1 -, 3, 4, 5, 6, 8 +

## DE1A1BL23D
designator K?
DE Relays, 3 V Coil Voltage, 200 mW Nominal Operating Power, -40 to 70 degC, 8-Pin DE, Tube, Case, RoHS; Manufacturer: Panasonic; PartNumber: DE1A1BL23D; Coil Voltage: 3 V; Electrical Life: 1x10^5; Max Switching Current: 8 A; Max Switching Voltage: 440 V AC, 230 V DC; Mechanical Life(Min.operation): 1x10^7; Nominal Operating Power: 200 mW; Pb-Free: True; DatasheetVersion: 150313D; PackageVersion: 150313D, 03/2013; PackageReference: DE-8-2500x1250x1250; PackageDescription: 8-Pin Through Hole Terminal Package, Body 25 x 12.5 mm; Supplier 1: Mouser; Supplier Part Number 1: N/A; Packing: Tube, Case; RoHS: True; Series: DE Relays; Mounting Technology: Through Hole; ComponentLink1Description: Manufacturer URL; ComponentLink1URL: http://www3.panasonic.biz/ac/ae/index.jsp; ComponentLink2Description: Datasheet; ComponentLink2URL: https://www.distrelec.de/ishop/Datasheets/ds_61A01_en_de.pdf; ComponentLink3Description: Package Specification; ComponentLink3URL: https://www.distrelec.de/ishop/Datasheets/ds_61A01_en_de.pdf
footprint PNSC-DE-8-2500x1250x1250_V (DE, 8-Leads, Body 25x12.5mm)
pins: 1 +, 2 +, 3, 4, 5, 6, 7 -, 8 -